# EAGLE library part MICROSD_MOLEX_REVERSE (library miller)
Molex micro SD connector, push-push spring loaded, "reverse" mount Pins accessible at rear of case. Active: Molex PN 5027740891 Digikey PN WM24066CT-ND Obsolete: Molex PN 49225-201
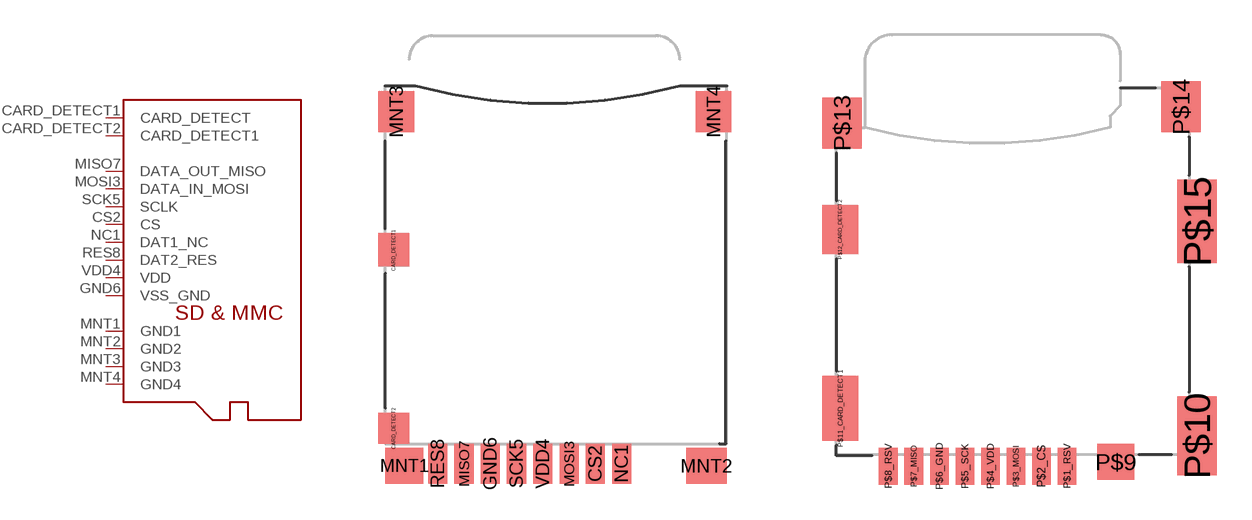
[diagram p22: symbol with the pads of MICROSD_SOCKET_MOLEX_REVERSEMOUNT; footprints MICROSD_SOCKET_MOLEX_REVERSEMOUNT, MICROSD_SOCKET_MOLEX_REVERSEMOUNT_OBSOLETE]

Designator prefix -

## MICROSD_MOLEX_REVERSECURRENT  [MICROSD_SOCKET_MOLEX_REVERSEMOUNT]
CARD_DETECT1  CARD_DETECT  pas
CARD_DETECT2  CARD_DETECT1  pas
CS2  CS  in
GND6  VSS_GND  sup
MISO7  DATA_OUT_MISO  out
MNT1  GND1  sup
MNT2  GND2  sup
MNT3  GND3  sup
MNT4  GND4  sup
MOSI3  DATA_IN_MOSI  in
NC1  DAT1_NC
RES8  DAT2_RES
SCK5  SCLK  in
VDD4  VDD  sup

## MICROSD_MOLEX_REVERSEOBSOLETE  [MICROSD_SOCKET_MOLEX_REVERSEMOUNT_OBSOLETE]
P$1_RSV  DAT1_NC
P$2_CS  CS  in
P$3_MOSI  DATA_IN_MOSI  in
P$4_VDD  VDD  sup
P$5_SCK  SCLK  in
P$6_GND  VSS_GND  sup
P$7_MISO  DATA_OUT_MISO  out
P$8_RSV  DAT2_RES
P$9  GND1  sup
P$10  GND2  sup
P$11_CARD_DETECT1  CARD_DETECT  pas
P$12_CARD_DETECT2  CARD_DETECT1  pas
P$13  GND3  sup
P$14  GND4  sup

## Footprint MICROSD_SOCKET_MOLEX_REVERSEMOUNT (pad centres in mm)
Molex micro SD card slot, push-push spring-loaded style "reverse mount" Molex PN 5027740891 Digikey PN WM24066CT-ND This version has the surface mount pins easily accessible at the rear of the housing rather than underneath it like most other sockets.
smd 1.29 x 1.4: CARD_DETECT1 -0.645,8.12
smd 1.29 x 1.3: CARD_DETECT2 -0.645,0.65
smd 0.8 x 1.68: CS2 7.8,-0.84; GND6 3.4,-0.84; MISO7 2.3,-0.84; MOSI3 6.7,-0.84; NC1 8.9,-0.84; RES8 1.2,-0.84; SCK5 4.5,-0.84; VDD4 5.6,-0.84
smd 1.6 x 1.5: MNT1 -0.2,-0.93
smd 1.7 x 1.5: MNT2 12.45,-0.93
smd 1.5 x 1.7: MNT3 -0.54,13.92; MNT4 12.75,13.92

## Footprint MICROSD_SOCKET_MOLEX_REVERSEMOUNT_OBSOLETE (pad centres in mm)
OBSOLETE - Use newer parts like Molex 502774-0891 Molex microSD push-push socket, "reverse mount" Molex PN 49225-0821 Digikey PN WM3295CT-ND
smd 0.8 x 1.6: P$1_RSV 10.54,-16.6; P$2_CS 9.44,-16.6; P$3_MOSI 8.34,-16.6; P$4_VDD 7.24,-16.6; P$5_SCK 6.14,-16.6; P$6_GND 5.04,-16.6; P$7_MISO 3.94,-16.6; P$8_RSV 2.84,-16.6
smd 1.6 x 1.55: P$9 12.64,-16.42
smd 1.7 x 3.4: P$10 16.15,-15.3
smd 1.55 x 2.8: P$11_CARD_DETECT1 0.775,-14.1
smd 1.55 x 2.1: P$12_CARD_DETECT2 0.775,-6.4
smd 1.7 x 2.2: P$13 0.85,-1.8; P$14 15.45,-1.1
smd 1.7 x 3.6: P$15 16.15,-6.05